# Altium footprint library Leadless.PcbLib: 132 footprints (part 1 of 9)
Each footprint in its own frame and in the unit in brackets; x right, y up, seen from the top. Pads: shape width x height; smd on the part's side, far side on the other; paste and mask are expansions set on the pad; w line width, h text height; cw(c..) or ccw(c..) is an arc to the next point about the centre after c.
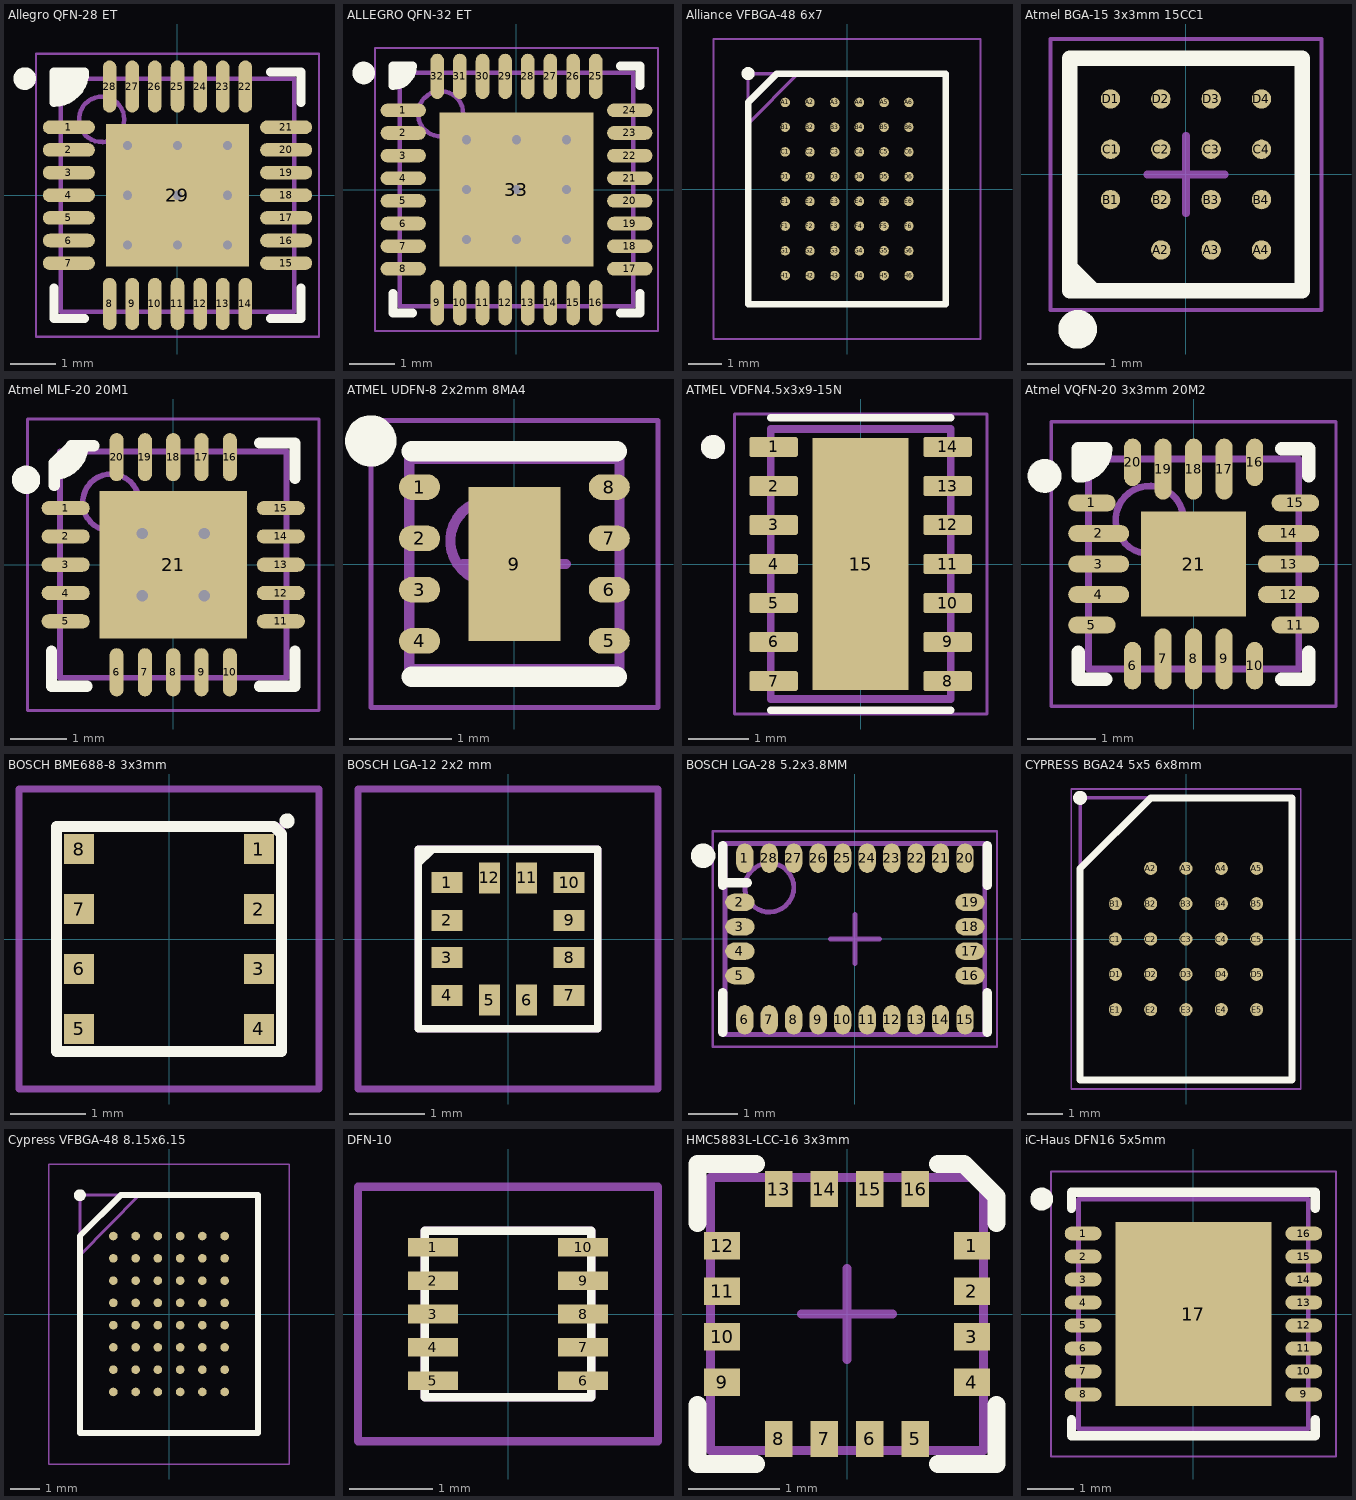
[diagram p0: the footprints below, top view; thin cyan lines are the x and y axes]

## Allegro QFN-28 ET [mm] "QFN, 28-Leads, Body 5.00x5.00mm, Pitch 0.50mm, Thermal Pad 3.15x3.15mm, IPC Medium Density"
height 1
pads (29):
  oval 1.15x0.3 smd: 1(-2.4,1.5) 2(-2.4,1) 3(-2.4,0.5) 4(-2.4,0) 5(-2.4,-0.5) 6(-2.4,-1) 7(-2.4,-1.5) 15(2.4,-1.5) 16(2.4,-1) 17(2.4,-0.5) 18(2.4,0) 19(2.4,0.5) 20(2.4,1) 21(2.4,1.5)
  oval 0.3x1.15 smd: 8(-1.5,-2.4) 9(-1,-2.4) 10(-0.5,-2.4) 11(0,-2.4) 12(0.5,-2.4) 13(1,-2.4) 14(1.5,-2.4) 22(1.5,2.4) 23(1,2.4) 24(0.5,2.4) 25(0,2.4) 26(-0.5,2.4) 27(-1,2.4) 28(-1.5,2.4)
  rect 3.15x3.15 smd: 29(0,0)
via -1.1,1.1 diameter 0.5 hole 0.2
via 0,1.1 diameter 0.5 hole 0.2
via 1.1,1.1 diameter 0.5 hole 0.2
via -1.1,0 diameter 0.5 hole 0.2
via 0,0 diameter 0.5 hole 0.2
via 1.1,0 diameter 0.5 hole 0.2
via -1.1,-1.1 diameter 0.5 hole 0.2
via 0,-1.1 diameter 0.5 hole 0.2
via 1.1,-1.1 diameter 0.5 hole 0.2
Top Overlay:
  circle w0.25: c-3.375,2.575 r0.125
  region: -2.725,2.725 -2.05,2.725 -2.05,2.659 -2.076,2.528 -2.127,2.405 -2.201,2.295 -2.295,2.201 -2.405,2.127 -2.528,2.076 -2.659,2.05 -2.725,2.05
  lines w0.2: -2.725,-2.05 -2.725,-2.725 -2.05,-2.725 ; 2.05,-2.725 2.725,-2.725 2.725,-2.05 ; 2.05,2.725 2.725,2.725 2.725,2.05 ; -2.725,2.05 ccw(c-2.725,2.725) -2.05,2.725 -2.725,2.725 -2.725,2.05
Top Component Outline:
  circle w0.1: c-1.675,1.675 r0.5
  lines w0.1: -2.575,-2.575 -2.575,2.575 2.575,2.575 2.575,-2.575 -2.575,-2.575
Top Courtyard:
  lines w0.05: -3.125,-3.125 -3.125,3.125 3.125,3.125 3.125,-3.125 -3.125,-3.125
  lines w0.1: -0.5,0 0.5,0 ; 0,-0.5 0,0.5
3D body: height 1, standoff 0.01, extent -2.575,-2.575 2.575,2.575

## ALLEGRO QFN-32 ET [mm] "QFN, 32-Leads, Body 5.00x5.00mm, Pitch 0.50mm, Thermal Pad 3.40x3.40mm, IPC Medium Density"
height 1
pads (33):
  oval 1x0.3 smd: 1(-2.5,1.75) 2(-2.5,1.25) 3(-2.5,0.75) 4(-2.5,0.25) 5(-2.5,-0.25) 6(-2.5,-0.75) 7(-2.5,-1.25) 8(-2.5,-1.75) 17(2.5,-1.75) 18(2.5,-1.25) 19(2.5,-0.75) 20(2.5,-0.25) 21(2.5,0.25) 22(2.5,0.75) 23(2.5,1.25) 24(2.5,1.75)
  oval 0.3x1 smd: 9(-1.75,-2.5) 10(-1.25,-2.5) 11(-0.75,-2.5) 12(-0.25,-2.5) 13(0.25,-2.5) 14(0.75,-2.5) 15(1.25,-2.5) 16(1.75,-2.5) 25(1.75,2.5) 26(1.25,2.5) 27(0.75,2.5) 28(0.25,2.5) 29(-0.25,2.5) 30(-0.75,2.5) 31(-1.25,2.5) 32(-1.75,2.5)
  rect 3.4x3.4 smd: 33(0,0)
via -1.1,1.1 diameter 0.5 hole 0.2
via 0,1.1 diameter 0.5 hole 0.2
via 1.1,1.1 diameter 0.5 hole 0.2
via -1.1,0 diameter 0.5 hole 0.2
via 0,0 diameter 0.5 hole 0.2
via 1.1,0 diameter 0.5 hole 0.2
via -1.1,-1.1 diameter 0.5 hole 0.2
via 0,-1.1 diameter 0.5 hole 0.2
via 1.1,-1.1 diameter 0.5 hole 0.2
Top Overlay:
  circle w0.25: c-3.375,2.575 r0.125
  region: -2.725,2.725 -2.3,2.725 -2.3,2.64 -2.365,2.484 -2.484,2.365 -2.64,2.3 -2.725,2.3
  lines w0.2: -2.725,-2.3 -2.725,-2.725 -2.3,-2.725 ; 2.3,-2.725 2.725,-2.725 2.725,-2.3 ; 2.3,2.725 2.725,2.725 2.725,2.3 ; -2.725,2.3 ccw(c-2.725,2.725) -2.3,2.725 -2.725,2.725 -2.725,2.3
Top Component Outline:
  circle w0.1: c-1.675,1.675 r0.5
  lines w0.1: -2.575,-2.575 -2.575,2.575 2.575,2.575 2.575,-2.575 -2.575,-2.575
Top Courtyard:
  lines w0.05: -3.125,-3.125 -3.125,3.125 3.125,3.125 3.125,-3.125 -3.125,-3.125
  lines w0.1: -0.5,0 0.5,0 ; 0,-0.5 0,0.5
3D body: height 1, standoff 0.01, extent -2.575,-2.575 2.575,2.575

## Alliance VFBGA-48 6x7 [mm] "48 Ball Fine Pitch BGA (0.75mm ball pitch)"
height 1
pads (48):
  round 0.29 smd: A1(-1.875,2.625) A2(-1.125,2.625) A3(-0.375,2.625) A4(0.375,2.625) A5(1.125,2.625) A6(1.875,2.625) B1(-1.875,1.875) B2(-1.125,1.875) B3(-0.375,1.875) B4(0.375,1.875) B5(1.125,1.875) B6(1.875,1.875) C1(-1.875,1.125) C2(-1.125,1.125) C3(-0.375,1.125) C4(0.375,1.125) C5(1.125,1.125) C6(1.875,1.125) D1(-1.875,0.375) D2(-1.125,0.375) D3(-0.375,0.375) D4(0.375,0.375) D5(1.125,0.375) D6(1.875,0.375) E1(-1.875,-0.375) E2(-1.125,-0.375) E3(-0.375,-0.375) E4(0.375,-0.375) E5(1.125,-0.375) E6(1.875,-0.375) F1(-1.875,-1.125) F2(-1.125,-1.125) F3(-0.375,-1.125) F4(0.375,-1.125) F5(1.125,-1.125) F6(1.875,-1.125) G1(-1.875,-1.875) G2(-1.125,-1.875) G3(-0.375,-1.875) G4(0.375,-1.875) G5(1.125,-1.875) G6(1.875,-1.875) H1(-1.875,-2.625) H2(-1.125,-2.625) H3(-0.375,-2.625) H4(0.375,-2.625) H5(1.125,-2.625) H6(1.875,-2.625)
Top Overlay:
  circle w0.2: c-3,3.5 r0.1
  lines w0.2: -3,-3.5 -3,2.625 -2.125,3.5 3,3.5 3,-3.5 -3,-3.5
Top Component Outline:
  lines w0.1: -3,1.975 -1.5,3.5 ; -3,-3.5 -3,3.5 3,3.5 3,-3.5 -3,-3.5
Top Courtyard:
  lines w0.05: -4.05,-4.55 -4.05,4.55 4.05,4.55 4.05,-4.55 -4.05,-4.55
3D body "S29AL016J70BFI020.stp": height 1, standoff 0, extent -3,-4 3,4

## Atmel BGA-15 3x3mm 15CC1 [mm] "BGA, 15-Leads, Body 3.00x3.00mmx0.60mm, Pitch 0.65mm"
height 0.6
pads (15):
  round 0.25 smd: A2(-0.325,-0.975) A3(0.325,-0.975) A4(0.975,-0.975) B1(-0.975,-0.325) B2(-0.325,-0.325) B3(0.325,-0.325) B4(0.975,-0.325) C1(-0.975,0.325) C2(-0.325,0.325) C3(0.325,0.325) C4(0.975,0.325) D1(-0.975,0.975) D2(-0.325,0.975) D3(0.325,0.975) D4(0.975,0.975)
Top Overlay:
  circle w0.25: c-1.4,-2 r0.125
  region: -1.5,-1.192 -1.192,-1.5 -1.5,-1.5
  lines w0.2: -1.5,-1.192 -1.192,-1.5 ; -1.5,-1.5 1.5,-1.5 1.5,1.5 -1.5,1.5 -1.5,-1.5
Top Component Outline:
  lines w0.1: -1.5,-1.5 1.5,-1.5 1.5,1.5 -1.5,1.5 -1.5,-1.5
Top Courtyard:
  lines w0.05: -1.75,-1.75 1.75,-1.75 1.75,1.75 -1.75,1.75 -1.75,-1.75
  lines w0.1: -0.5,0 0.5,0 ; 0,-0.5 0,0.5
3D body: height 0.6, standoff 0.12, extent -1.5,-1.5 1.5,1.5

## Atmel MLF-20 20M1 [mm] "QFN, 20-Leads, Body 4.00x4.00mm, Pitch 0.50mm, Thermal Pad 2.60x2.60mm, IPC Medium Density"
height 0.8
pads (21):
  oval 0.85x0.25 smd: 1(-1.9,1) 2(-1.9,0.5) 3(-1.9,0) 4(-1.9,-0.5) 5(-1.9,-1) 11(1.9,-1) 12(1.9,-0.5) 13(1.9,0) 14(1.9,0.5) 15(1.9,1)
  oval 0.25x0.85 smd: 6(-1,-1.9) 7(-0.5,-1.9) 8(0,-1.9) 9(0.5,-1.9) 10(1,-1.9) 16(1,1.9) 17(0.5,1.9) 18(0,1.9) 19(-0.5,1.9) 20(-1,1.9)
  rect 2.6x2.6 smd: 21(0,0)
via 0.55,-0.55 diameter 0.5 hole 0.2
via -0.55,-0.55 diameter 0.5 hole 0.2
via 0.55,0.55 diameter 0.5 hole 0.2
via -0.55,0.55 diameter 0.5 hole 0.2
Top Overlay:
  circle w0.25: c-2.6,1.5 r0.125
  region: -1.9,2.1 -1.6,2.1 -1.6,2.001 -1.676,1.817 -1.817,1.676 -2.001,1.6 -2.1,1.6 -2.2,1.6 -2.2,1.8
  lines w0.2: -2.15,-1.525 -2.15,-2.15 -1.525,-2.15 ; -2.1,1.4 -2.1,1.8 -1.8,2.1 -1.4,2.1 ; -2.1,1.6 ccw(c-2.1,2.1) -1.6,2.1 ; 1.525,-2.15 2.15,-2.15 2.15,-1.525 ; 1.525,2.15 2.15,2.15 2.15,1.525
Top Component Outline:
  circle w0.1: c-1.1,1.1 r0.5
  lines w0.1: -2,-2 2,-2 2,2 -2,2 -2,-2
Top Courtyard:
  lines w0.05: -2.575,-2.575 2.575,-2.575 2.575,2.575 -2.575,2.575 -2.575,-2.575
  lines w0.1: -0.5,0 0.5,0 ; 0,-0.5 0,0.5
3D body: height 0.8, standoff 0.01, extent -2,-2 2,2

## ATMEL UDFN-8 2x2mm 8MA4 [mm] "UDFN, 8-Leads, Body 2.00x2.00mm, Pitch 0.50mm, Thermal Pad 0.90x1.50mm, IPC Medium Density"
height 0.6
pads (9):
  oval 0.4x0.25 smd: 1(-0.925,0.75) 2(-0.925,0.25) 3(-0.925,-0.25) 4(-0.925,-0.75) 5(0.925,-0.75) 6(0.925,-0.25) 7(0.925,0.25) 8(0.925,0.75)
  rect 0.9x1.5 smd: 9(0,0)
Top Overlay:
  circle w0.25: c-1.4,1.2 r0.125
  lines w0.2: -1,-1.1 1,-1.1 ; -1,1.1 1,1.1
Top Component Outline:
  circle w0.1: c-0.225,0.225 r0.4
  lines w0.1: -1.025,-1.025 1.025,-1.025 1.025,1.025 -1.025,1.025 -1.025,-1.025
Top Courtyard:
  lines w0.05: -1.4,-1.4 1.4,-1.4 1.4,1.4 -1.4,1.4 -1.4,-1.4
  lines w0.1: -0.5,0 0.5,0 ; 0,-0.5 0,0.5
3D body: height 0.6, standoff 0.01, extent -1.025,-1.025 1.025,1.025

## ATMEL VDFN4.5x3x9-15N [mm]
height 1
pads (15):
  rrect25% 0.81x0.34 smd: 1(-1.45,1.95) 2(-1.45,1.3) 3(-1.45,0.65) 4(-1.45,0) 5(-1.45,-0.65) 6(-1.45,-1.3) 7(-1.45,-1.95) 8(1.45,-1.95) 9(1.45,-1.3) 10(1.45,-0.65) 11(1.45,0) 12(1.45,0.65) 13(1.45,1.3) 14(1.45,1.95)
  rect 1.6x4.2 smd paste-3: 15(0,0)
Top Overlay:
  circle w0.2: c-2.46,1.95 r0.1
  lines w0.127: -1.5,-2.44 1.5,-2.44 ; -1.5,2.44 1.5,2.44
Top Paste:
  region: 0.475,0.11 -0.475,0.11 -0.475,1.88 0.475,1.88
  region: 0.475,-1.88 -0.475,-1.88 -0.475,-0.11 0.475,-0.11
Top Component Outline:
  circle w0.2: c-2.46,1.95 r0.1
  lines w0.127: -1.5,-2.25 -1.5,2.25 1.5,2.25 1.5,-2.25 -1.5,-2.25
Top Courtyard:
  lines w0.05: -2.105,-2.5 -2.105,2.5 2.105,2.5 2.105,-2.5 -2.105,-2.5
3D body "DFN-14-4x3.STEP": height 0.75, standoff 0, extent -1.475,-2 1.525,2

## Atmel VQFN-20 3x3mm 20M2 [mm] "VQFN, 20-Leads, Body 3.00x3.00mm, Pitch 0.45mm, Thermal Pad 1.55x1.55mm, IPC Medium Density"
height 0.85
pads (21):
  oval 0.7x0.25 smd: 1(-1.5,0.9) 5(-1.5,-0.9) 11(1.5,-0.9) 15(1.5,0.9)
  oval 0.9x0.25 smd: 2(-1.4,0.45) 3(-1.4,0) 4(-1.4,-0.45) 12(1.4,-0.45) 13(1.4,0) 14(1.4,0.45)
  oval 0.25x0.7 smd: 6(-0.9,-1.5) 10(0.9,-1.5) 16(0.9,1.5) 20(-0.9,1.5)
  oval 0.25x0.9 smd: 7(-0.45,-1.4) 8(0,-1.4) 9(0.45,-1.4) 17(0.45,1.4) 18(0,1.4) 19(-0.45,1.4)
  rect 1.55x1.55 smd: 21(0,0)
Top Overlay:
  circle w0.25: c-2.2,1.3 r0.125
  region: -1.7,1.7 -1.3,1.7 -1.3,1.5 -1.5,1.3 -1.7,1.3
  lines w0.2: -1.7,-1.3 -1.7,-1.7 -1.3,-1.7 ; 1.3,-1.7 1.7,-1.7 1.7,-1.3 ; 1.3,1.7 1.7,1.7 1.7,1.3 ; -1.7,1.3 ccw(c-1.7,1.7) -1.3,1.7 -1.7,1.7 -1.7,1.3
Top Component Outline:
  circle w0.1: c-0.65,0.65 r0.5
  lines w0.1: -1.55,-1.55 -1.55,1.55 1.55,1.55 1.55,-1.55 -1.55,-1.55
Top Courtyard:
  lines w0.05: -2.1,-2.1 -2.1,2.1 2.1,2.1 2.1,-2.1 -2.1,-2.1
  lines w0.1: -0.5,0 0.5,0 ; 0,-0.5 0,0.5
3D body: height 0.85, standoff 0.01, extent -1.55,-1.55 1.55,1.55

## BOSCH BME688-8 3x3mm [mm]
pads (8):
  rect 0.4x0.4 smd: 1(1.2,1.2) 2(1.2,0.4) 3(1.2,-0.4) 4(1.2,-1.2) 5(-1.2,-1.2) 6(-1.2,-0.4) 7(-1.2,0.4) 8(-1.2,1.2)
Top Overlay:
  circle w0.1: c1.575,1.575 r0.05
  lines w0.152: -1.5,-1.5 1.5,-1.5 1.5,1.4 1.4,1.5 -1.5,1.5 -1.5,-1.5
Top Component Outline:
  lines w0.1: -1.5,-1.5 -1.5,1.5 1.5,1.5 1.5,-1.5 -1.5,-1.5
Top Courtyard:
  lines w0.1: -2,-2 -2,2 2,2 2,-2 -2,-2
3D body "BME688.stp": height 0.93, standoff 0, extent -1.5,-1.5 1.5,1.5

## BOSCH LGA-12 2x2 mm [mm]
pads (12):
  rect 0.41x0.28 smd: 1(-0.815,0.75) 2(-0.815,0.25) 3(-0.815,-0.25) 4(-0.815,-0.75) 7(0.815,-0.75) 8(0.815,-0.25) 9(0.815,0.25) 10(0.815,0.75)
  rect 0.28x0.41 smd: 5(-0.25,-0.815) 6(0.25,-0.815) 11(0.25,0.815) 12(-0.25,0.815)
Top Overlay:
  lines w0.1: -1.2,1 -1.025,1.175 -1.075,1.175 -1.175,1.075 -1.2,1.075 ; -1.2,-1.2 1.2,-1.2 1.2,1.2 -1.2,1.2 -1.2,-1.2
Top Component Outline:
  lines w0.1: -1.2,-1.2 -1.2,1.2 1.2,1.2 1.2,-1.2 -1.2,-1.2
Top Courtyard:
  lines w0.1: -2,-2 -2,2 2,2 2,-2 -2,-2 ; -1.2,-1.2 1.2,-1.2 1.2,1.2 -1.2,1.2 -1.2,-1.2
3D body "LGA-12-2x2mm.step": height 0.95, standoff 0, extent -1,-1 1,1

## BOSCH LGA-28 5.2x3.8MM [mm] "LGA, 28-Leads, Body 5.20x3.80mm, Pitch 0.50mm, IPC Medium Density"
height 1.18
pads (28):
  oval 0.35x0.6 smd: 1(-2.25,1.65) 6(-2.25,-1.65) 7(-1.75,-1.65) 8(-1.25,-1.65) 9(-0.75,-1.65) 10(-0.25,-1.65) 11(0.25,-1.65) 12(0.75,-1.65) 13(1.25,-1.65) 14(1.75,-1.65) 15(2.25,-1.65) 20(2.25,1.65) 21(1.75,1.65) 22(1.25,1.65) 23(0.75,1.65) 24(0.25,1.65) 25(-0.25,1.65) 26(-0.75,1.65) 27(-1.25,1.65) 28(-1.75,1.65)
  oval 0.6x0.35 smd: 2(-2.35,0.75) 3(-2.35,0.25) 4(-2.35,-0.25) 5(-2.35,-0.75) 16(2.35,-0.75) 17(2.35,-0.25) 18(2.35,0.25) 19(2.35,0.75)
Top Overlay:
  circle w0.25: c-3.1,1.7 r0.125
  lines w0.2: -2.7,-1.9 -2.7,-1.1 ; -2.7,1.1 -2.7,1.9 ; -2.7,1.15 -2.2,1.15 ; 2.7,-1.9 2.7,-1.1 ; 2.7,1.1 2.7,1.9
Top Component Outline:
  circle w0.1: c-1.75,1.05 r0.5
  lines w0.1: -2.65,-1.95 2.65,-1.95 2.65,1.95 -2.65,1.95 -2.65,-1.95
Top Courtyard:
  lines w0.05: -2.9,-2.2 2.9,-2.2 2.9,2.2 -2.9,2.2 -2.9,-2.2
  lines w0.1: -0.5,0 0.5,0 ; 0,-0.5 0,0.5
3D body: height 1.18, standoff 0.13, extent -2.65,-1.95 2.65,1.95

## CYPRESS BGA24 5x5 6x8mm [mm] "FAB024 — 24-Ball BGA (8 x 6 mm) Package"
height 1.2
pads (24):
  round 0.37 smd: A2(-1,2) A3(0,2) A4(1,2) A5(2,2) B1(-2,1) B2(-1,1) B3(0,1) B4(1,1) B5(2,1) C1(-2,0) C2(-1,0) C3(0,0) C4(1,0) C5(2,0) D1(-2,-1) D2(-1,-1) D3(0,-1) D4(1,-1) D5(2,-1) E1(-2,-2) E2(-1,-2) E3(0,-2) E4(1,-2) E5(2,-2)
Top Overlay:
  circle w0.2: c-3,4 r0.1
  lines w0.2: -3,-4 -3,2 -1,4 3,4 3,-4 -3,-4
Top Component Outline:
  lines w0.1: -3,2 -1,4 ; -3,-4 -3,4 3,4 3,-4 -3,-4
Top Courtyard:
  lines w0.05: -3.25,-4.25 -3.25,4.25 3.25,4.25 3.25,-4.25 -3.25,-4.25
3D body "S25FL128SAGBHI300.stp": height 1.2, standoff 0, extent -3,-4 3,4

## Cypress VFBGA-48 8.15x6.15 [mm] "VFBGA-48-Ball Fine-Pitch Ball Grid Array (BGA) 8.15 mm x 6.15 mm"
height 1
pads (48):
  round 0.29 smd: A1(-1.875,2.625) A2(-1.125,2.625) A3(-0.375,2.625) A4(0.375,2.625) A5(1.125,2.625) A6(1.875,2.625) B1(-1.875,1.875) B2(-1.125,1.875) B3(-0.375,1.875) B4(0.375,1.875) B5(1.125,1.875) B6(1.875,1.875) C1(-1.875,1.125) C2(-1.125,1.125) C3(-0.375,1.125) C4(0.375,1.125) C5(1.125,1.125) C6(1.875,1.125) D1(-1.875,0.375) D2(-1.125,0.375) D3(-0.375,0.375) D4(0.375,0.375) D5(1.125,0.375) D6(1.875,0.375) E1(-1.875,-0.375) E2(-1.125,-0.375) E3(-0.375,-0.375) E4(0.375,-0.375) E5(1.125,-0.375) E6(1.875,-0.375) F1(-1.875,-1.125) F2(-1.125,-1.125) F3(-0.375,-1.125) F4(0.375,-1.125) F5(1.125,-1.125) F6(1.875,-1.125) G1(-1.875,-1.875) G2(-1.125,-1.875) G3(-0.375,-1.875) G4(0.375,-1.875) G5(1.125,-1.875) G6(1.875,-1.875) H1(-1.875,-2.625) H2(-1.125,-2.625) H3(-0.375,-2.625) H4(0.375,-2.625) H5(1.125,-2.625) H6(1.875,-2.625)
Top Overlay:
  circle w0.2: c-3,4 r0.1
  lines w0.2: -3,-4 -3,2.625 -1.625,4 3,4 3,-4 -3,-4
Top Component Outline:
  lines w0.1: -3,1.975 -1.017,3.991 ; -3,-4 -3,4 3,4 3,-4 -3,-4
Top Courtyard:
  lines w0.05: -4.05,-5.05 -4.05,5.05 4.05,5.05 4.05,-5.05 -4.05,-5.05
3D body "S29AL016J70BFI020.stp": height 1, standoff 0, extent -3,-4 3,4

## DFN-10 [mm] "2x2 mm body size, 0,4mm pitch, 0,25mm width, 0,5mm length"
height 0.9
pads (10):
  rect 0.6x0.225 smd: 1(-0.9,0.8) 2(-0.9,0.4) 3(-0.9,0) 4(-0.9,-0.4) 5(-0.9,-0.8) 6(0.9,-0.8) 7(0.9,-0.4) 8(0.9,0) 9(0.9,0.4) 10(0.9,0.8)
Top Overlay:
  lines w0.1: -1,-1 1,-1 1,1 -1,1 -1,-1
  text "." at -1.625,0.75 h1
Top Component Outline:
  lines w0.1: -1,-1 -1,1 1,1 1,-1 -1,-1
Top Courtyard:
  lines w0.1: -1.8,-1.525 -1.8,1.525 1.8,1.525 1.8,-1.525 -1.8,-1.525
3D body "DFN-10.step": height 0.85, standoff -0.03, extent -1.005,-1 1.015,1

## HMC5883L-LCC-16 3x3mm [mm]
pads (16):
  rect 0.4x0.3 smd: 1(1.375,0.75) 2(1.375,0.25) 3(1.375,-0.25) 4(1.375,-0.75) 9(-1.375,-0.75) 10(-1.375,-0.25) 11(-1.375,0.25) 12(-1.375,0.75)
  rect 0.3x0.4 smd: 5(0.75,-1.375) 6(0.25,-1.375) 7(-0.25,-1.375) 8(-0.75,-1.375) 13(-0.75,1.375) 14(-0.25,1.375) 15(0.25,1.375) 16(0.75,1.375)
Top Overlay:
  lines w0.2: -1.645,-1 -1.645,-1.65 -1,-1.65 ; -1.645,1 -1.645,1.65 -1,1.65 ; 1,-1.65 1.645,-1.65 1.645,-1 ; 1,1.65 1.285,1.65 1.645,1.29 1.645,1
Top Component Outline:
  lines w0.1: -1.5,-1.5 -1.5,1.5 1.5,1.5 1.5,-1.5 -1.5,-1.5
Top Courtyard:
  lines w0.1: -0.5,0 0.5,0 ; 0,-0.5 0,0.5
3D body: height 0.9, standoff 0, extent -1.7,-1.6 1.7,1.7

## iC-Haus DFN16 5x5mm [mm] "DFN16-5x5"
height 0.9
pads (17):
  oval 0.8x0.3 smd: 1(-2.4,1.75) 2(-2.4,1.25) 3(-2.4,0.75) 4(-2.4,0.25) 5(-2.4,-0.25) 6(-2.4,-0.75) 7(-2.4,-1.25) 8(-2.4,-1.75) 9(2.4,-1.75) 10(2.4,-1.25) 11(2.4,-0.75) 12(2.4,-0.25) 13(2.4,0.25) 14(2.4,0.75) 15(2.4,1.25) 16(2.4,1.75)
  rect 3.4x4 smd: 17(0,0)
Top Overlay:
  circle w0.25: c-3.3,2.5 r0.125
  lines w0.2: -2.65,-2.3 -2.65,-2.65 0.3,-2.65 2.65,-2.65 2.65,-2.3 ; -2.65,2.3 -2.65,2.65 0.3,2.65 2.65,2.65 2.65,2.3
Assembly Notes:
  lines w0.1: -2.5,-2.5 2.5,-2.5 2.5,2.5 -2.5,2.5 -2.5,-2.5
Dimensions:
  lines w0.05: -3.1,-3.1 3.1,-3.1 3.1,3.1 -3.1,3.1 -3.1,-3.1
  lines w0.1: -0.5,0 0.5,0 ; 0,-0.5 0,0.5
3D body "DFN-16 5x5.STEP": height 0.8, standoff 0, extent -2.56,-2.55 2.56,2.55